# Altium footprint library footprints.PcbLib: 6 footprints
Each footprint in its own frame and in the unit in brackets; x right, y up, seen from the top. Pads: shape width x height; smd on the part's side, far side on the other; paste and mask are expansions set on the pad; w line width, h text height; cw(c..) or ccw(c..) is an arc to the next point about the centre after c.
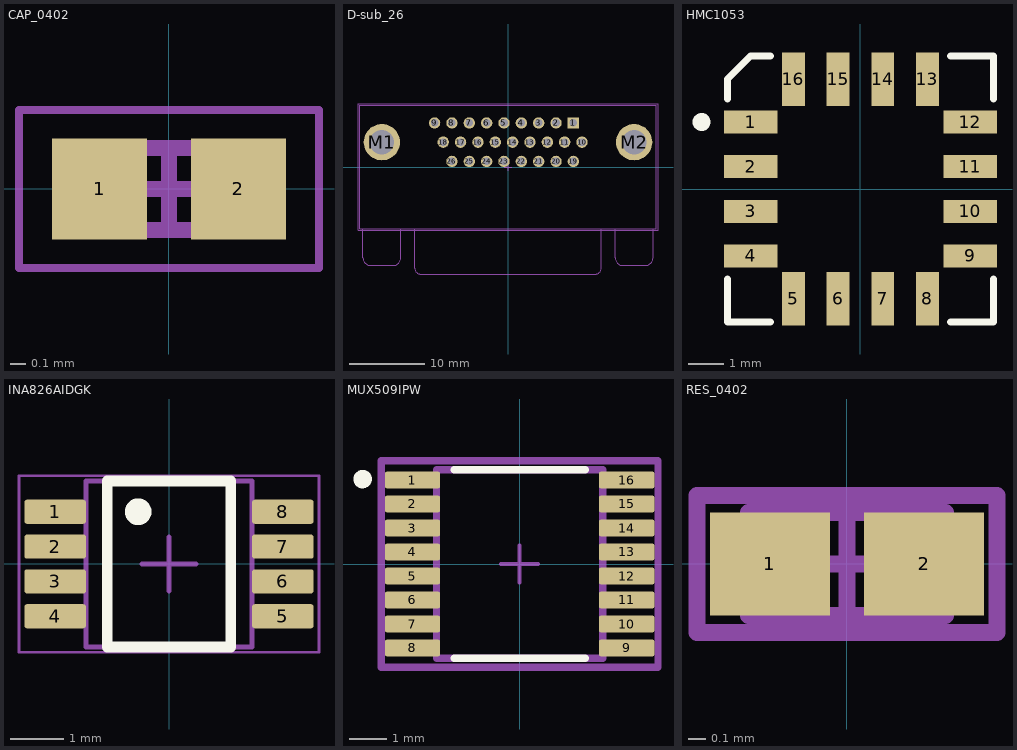
[diagram p0: the footprints below, top view; thin cyan lines are the x and y axes]

## CAP_0402 [mm] "Chip Capacitor, 2-Leads, Body 1.02x0.51mm, IPC Medium Density"
height 0.52
pads (2):
  rect 0.6x0.64 smd mask+0.051: 1(-0.44,0) 2(0.44,0)
Top 3D Body:
  lines w0.1: -0.515,-0.26 0.515,-0.26 0.515,0.26 -0.515,0.26 -0.515,-0.26
Top Courtyard:
  lines w0.05: -0.95,-0.5 0.95,-0.5 0.95,0.5 -0.95,0.5 -0.95,-0.5
  lines w0.1: -0.26,0 0.26,0 ; 0,-0.26 0,0.26
3D body "0402 cap.STEP": height 0.52, standoff 0, extent -0.5,-0.262 0.5,0.262

## D-sub_26 [mm] "26 pins, right angled"
height 12.5
pads (28):
  rect 1.5x1.5 hole 1: 1(8.63,5.82)
  round 1.5 hole 1: 2(6.34,5.82) 3(4.05,5.82) 4(1.76,5.82) 5(-0.53,5.82) 6(-2.82,5.82) 7(-5.11,5.82) 8(-7.4,5.82) 9(-9.69,5.82) 10(9.77,3.28) 11(7.48,3.28) 12(5.19,3.28) 13(2.9,3.28) 14(0.61,3.28) 15(-1.68,3.28) 16(-3.97,3.28) 17(-6.26,3.28) 18(-8.55,3.28) 19(8.63,0.74) 20(6.34,0.74) 21(4.05,0.74) 22(1.76,0.74) 23(-0.53,0.74) 24(-2.82,0.74) 25(-5.11,0.74) 26(-7.4,0.74)
  round 4.8 hole 3.2: M1(-16.65,3.28) M2(16.65,3.28)
Mechanical 2:
  lines w0.1: -19.6,-8.15 19.6,-8.15
  text "PCB Edge" at -3.4,-9.62 h1.02
Top 3D Body:
  lines w0.1: -19.15,-8.15 -19.15,-11.99 ccw(c-18.15,-11.99) -18.15,-12.99 -15.15,-12.99 ccw(c-15.15,-11.99) -14.15,-11.99 -14.15,-8.15 ; -12.3,-8.15 -12.3,-13.35 ccw(c-11.5,-13.35) -11.5,-14.15 11.5,-14.15 ccw(c11.5,-13.35) 12.3,-13.35 12.3,-8.15 ; 14.15,-8.15 14.15,-11.99 ccw(c15.15,-11.99) 15.15,-12.99 18.15,-12.99 ccw(c18.15,-11.99) 19.15,-11.99 19.15,-8.15 ; -19.6,-8.15 -19.6,8.15 19.6,8.15 19.6,-8.15 -19.6,-8.15
Top Courtyard:
  lines w0.05: -0.5,0 0.5,0 ; 0,-0.5 0,0.5 ; -19.8,-8.35 -19.8,8.35 19.8,8.35 19.8,-8.35 -19.8,-8.35
3D body "618026330923.stp": height 12.55, standoff -3.95, extent -19.6,-14.15 19.6,8.15

## HMC1053 [mm]
pads (16):
  rect 1.52x0.65 smd mask+0.064: 1(-3.123,1.905) 2(-3.123,0.635) 3(-3.123,-0.635) 4(-3.123,-1.905) 9(3.123,-1.905) 10(3.123,-0.635) 11(3.123,0.635) 12(3.123,1.905)
  rect 0.65x1.52 smd mask+0.064: 5(-1.905,-3.124) 6(-0.635,-3.124) 7(0.635,-3.124) 8(1.905,-3.124) 13(1.905,3.124) 14(0.635,3.124) 15(-0.635,3.124) 16(-1.905,3.124)
Top Overlay:
  circle w0.254: c-4.52,1.905 r0.127
  lines w0.2: -3.783,-2.555 -3.783,-3.784 -2.555,-3.784 ; -3.783,2.555 -3.783,3.124 -3.123,3.784 -2.555,3.784 ; 2.555,-3.784 3.783,-3.784 3.783,-2.555 ; 2.555,3.784 3.783,3.784 3.783,2.555
3D body "HMC1053.stp": height 2.81, standoff 0.01, extent -3.735,-3.735 3.735,3.735

## INA826AIDGK [mm] "TSOP, 8-Leads, Body 3.1x3.1mm, Pitch 0.65mm, IPC High Density"
height 1.1
pads (8):
  rrect22% 1.15x0.45 smd mask+0.07: 1(-2.125,0.975) 2(-2.125,0.325) 3(-2.125,-0.325) 4(-2.125,-0.975) 5(2.125,-0.975) 6(2.125,-0.325) 7(2.125,0.325) 8(2.125,0.975)
Top Overlay:
  circle w0.25: c-0.575,0.975 r0.125
  lines w0.2: -1.15,-1.55 1.15,-1.55 1.15,1.55 -1.15,1.55 -1.15,-1.55
Mechanical 1:
  text ".Designator" at -1.397,-0.254 h0.7
Top 3D Body:
  lines w0.1: -1.55,-1.55 1.55,-1.55 1.55,1.55 -1.55,1.55 -1.55,-1.55
Top Courtyard:
  lines w0.05: -2.8,-1.65 2.8,-1.65 2.8,1.65 -2.8,1.65 -2.8,-1.65
  lines w0.1: -0.5,0 0.5,0 ; 0,-0.5 0,0.5
3D body "MUY08A_ASM.stp": height 0.94, standoff -0.02, extent -2.451,-1.499 2.451,1.499

## MUX509IPW [mm]
pads (16):
  rrect22% 1.5x0.45 smd paste+0 mask+0.051: 1(-2.9,2.275) 2(-2.9,1.625) 3(-2.9,0.975) 4(-2.9,0.325) 5(-2.9,-0.325) 6(-2.9,-0.975) 7(-2.9,-1.625) 8(-2.9,-2.275) 9(2.9,-2.275) 10(2.9,-1.625) 11(2.9,-0.975) 12(2.9,-0.325) 13(2.9,0.325) 14(2.9,0.975) 15(2.9,1.625) 16(2.9,2.275)
Top Overlay:
  circle w0.25: c-4.25,2.3 r0.125
  lines w0.2: -1.775,-2.55 1.775,-2.55 ; -1.775,2.55 1.775,2.55
Top Assembly:
  lines w0.2: -3.75,-2.8 -3.75,2.8 3.75,2.8 3.75,-2.8 -3.75,-2.8
  text ".Designator" at 0,0.188 h1
Top 3D Body:
  lines w0.2: -2.25,-2.55 -2.25,2.55 2.25,2.55 2.25,-2.55 -2.25,-2.55
Top Courtyard:
  lines w0.2: -3.75,-2.8 -3.75,2.8 3.75,2.8 3.75,-2.8 -3.75,-2.8
Top Component Center:
  lines w0.1: -0.5,0 0.5,0 ; 0,-0.5 0,0.5
3D body "IC_TEXAS_INSTRUMENTS_SN74HC165PWR_eec.STEP": height 0.25, standoff 0, extent -3.75,-2.8 3.75,2.8

## RES_0402 [mm] "Chip Resistor, 2-Leads, Body 1.0x0.5mm, IPC High Density"
height 0.4
pads (2):
  rect 0.7x0.6 smd mask+0.051: 1(-0.45,0) 2(0.45,0)
Top 3D Body:
  lines w0.1: -0.575,-0.3 -0.575,0.3 0.575,0.3 0.575,-0.3 -0.575,-0.3
Top Courtyard:
  lines w0.1: -0.3,0 0.3,0 ; 0,-0.3 0,0.3 ; -0.875,-0.4 -0.875,0.4 0.875,0.4 0.875,-0.4 -0.875,-0.4
3D body "0402 resistor.STEP": height 0.35, standoff 0, extent -0.5,-0.25 0.5,0.25